# Altium integrated library GRM188R60J106ME84D.IntLib: 1 symbol
Pins are listed as number, name and electrical type; pins without a type are passive.

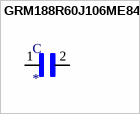
[diagram p0: symbol GRM188R60J106ME84D]

## GRM188R60J106ME84D
designator C
SMD Capacitor X5R(EIA) with Capacitance: 10uF Tol. 20%. Rated Voltage: 6.3Vdc; MF: Murata; MP: GRM188R60J106ME84D; Value: *; Availability: Unavailable; Price: None; SnapEDA_Link: https://www.snapeda.com/parts/GRM188R60J106ME84D/Murata%20Electronics%20North%20America/view-part/423309/?ref=snap; DigiKey-Purchase-URL: https://snapeda.com/shop?store=DigiKey&id=423309; Package: 1608 Murata
footprint CAPC1608X90N
pins: 1, 2